# Altium footprint library CYPCBLIB.PcbLib: 184 footprints (part 6 of 12)
Each footprint in its own frame and in the unit in brackets; x right, y up, seen from the top. Pads: shape width x height; smd on the part's side, far side on the other; paste and mask are expansions set on the pad; w line width, h text height; cw(c..) or ccw(c..) is an arc to the next point about the centre after c.
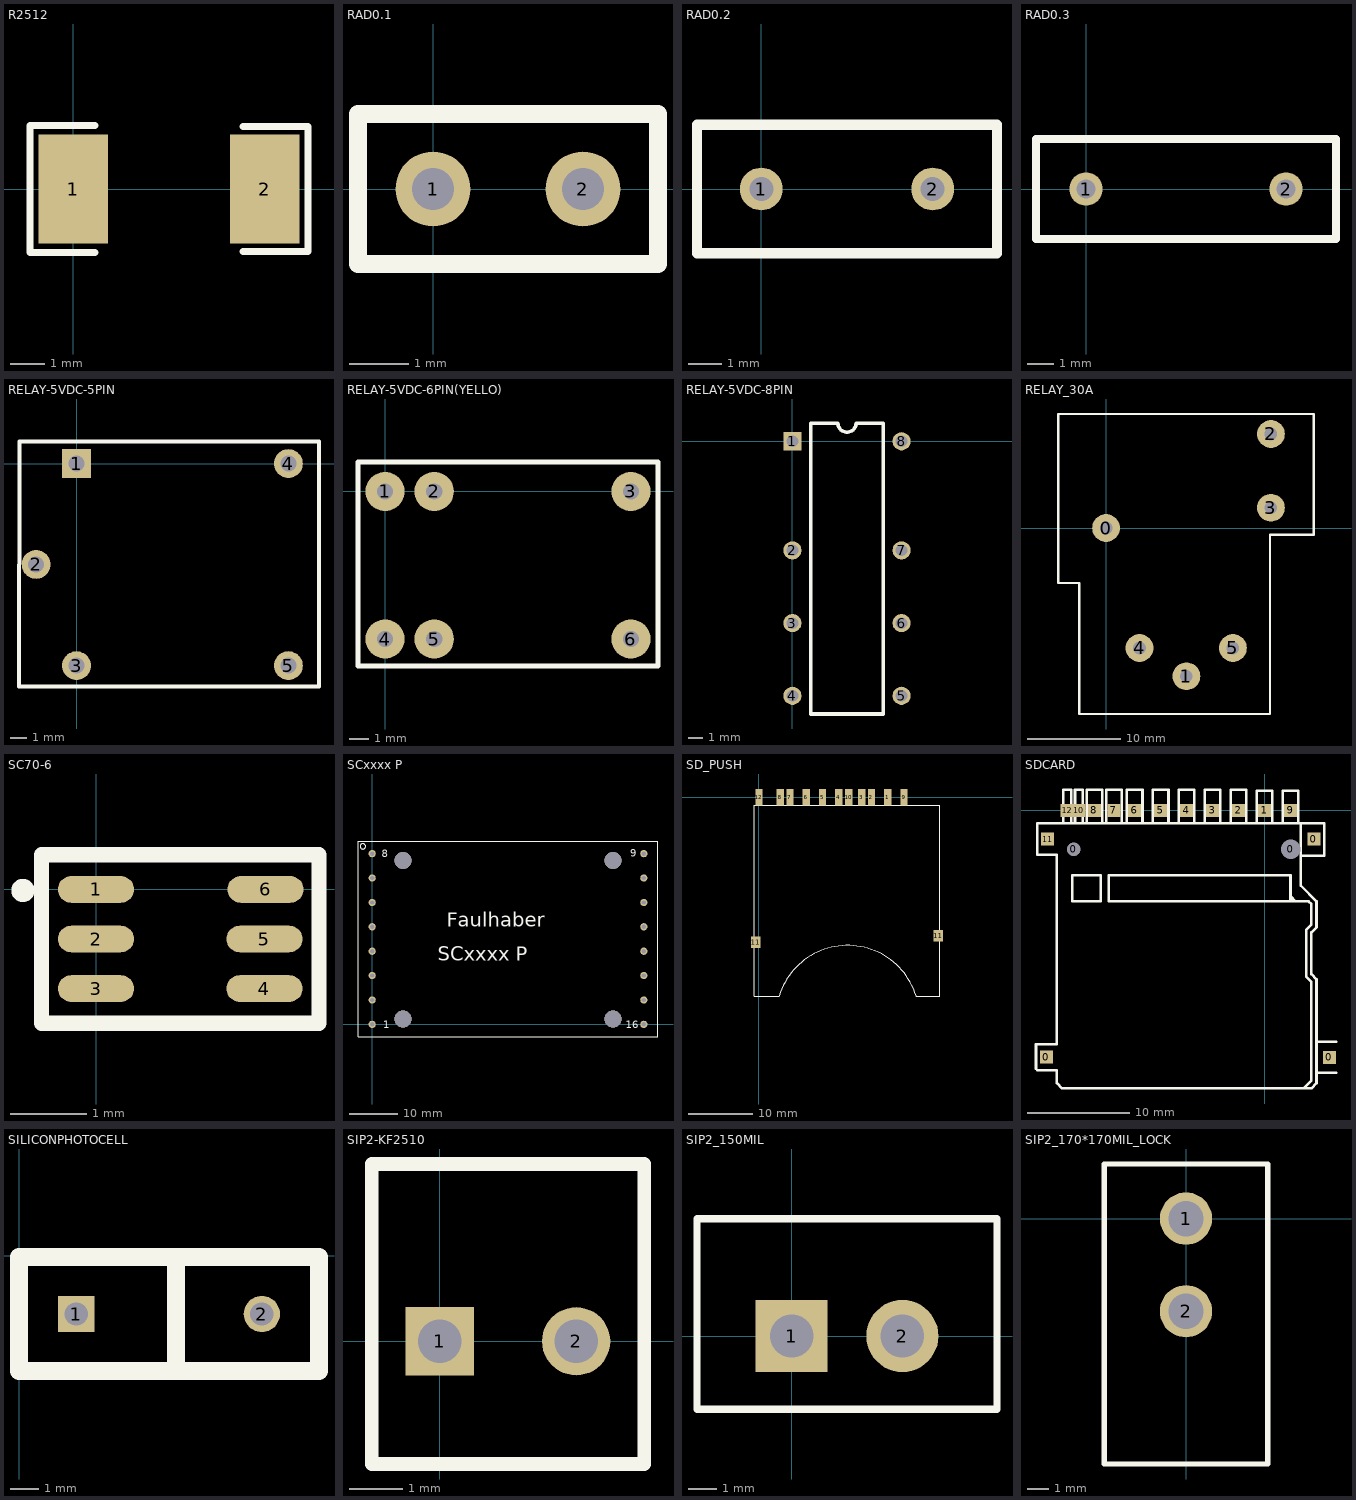
[diagram p5: the footprints below, top view; thin cyan lines are the x and y axes]

## R2512 [mil]
pads (2):
  rect 80x125 smd: 1(0,0) 2(220,0)
TopOverlay:
  lines w8: 25,-72.83 -50,-72.83 -50,72.83 25,72.83 ; 195,-71.85 270,-71.85 270,71.85 195,71.85

## RAD0.1 [mil]
pads (2):
  round 50 hole 28: 1(0,0) 2(100,0)
TopOverlay:
  lines w12: -50,-50 -50,50 150,50 150,-50 -50,-50

## RAD0.2 [mil]
pads (2):
  round 50 hole 28: 1(0,0) 2(200,0)
TopOverlay:
  lines w12: -75,-75 275,-75 275,75 -75,75 -75,-75

## RAD0.3 [mil]
pads (2):
  round 50 hole 28: 1(0,0) 2(300,0)
TopOverlay:
  lines w12: -75,-75 -75,75 375,75 375,-75 -75,-75

## RELAY-5VDC-5PIN [mm]
pads (5):
  rect 1.8x1.8 hole 1: 1(0,0)
  round 1.8 hole 1: 2(-2.515,-6.274) 3(0,-12.573) 4(13.183,0) 5(13.183,-12.573)
TopOverlay:
  lines w0.254: -3.581,-13.868 15.088,-13.868 15.088,1.372 -3.556,1.372 -3.581,-13.868

## RELAY-5VDC-6PIN(YELLO) [mil]
pads (6):
  round 80 hole 33: 1(0,0) 2(100,0) 3(500,0) 4(0,-300) 5(100,-300) 6(500,-300)
TopOverlay:
  lines w10: -55,-355 555,-355 555,60 -55,60 -55,-355

## RELAY-5VDC-8PIN [mil]
pads (8):
  rect 50x50 hole 32: 1(0,0)
  round 50 hole 32: 2(0,-300) 3(0,-500) 4(0,-700) 5(300,-700) 6(300,-500) 7(300,-300) 8(300,0)
TopOverlay:
  lines w10: 50,-750 250,-750 250,50 175,50 cw(c150,50) 125,50 50,50 50,-750

## RELAY_30A [mm]
pads (6):
  round 3 hole 1.35: 0(0,0) 1(8.63,-15.94) 2(17.72,10.11) 3(17.72,2.18) 4(3.59,-12.9) 5(13.63,-12.9)
TopOverlay:
  lines w0.254: 8.564,-20 8.566,-19.998 ; -5.15,-5.91 -5.15,12.26 22.33,12.26 22.33,-0.74 17.63,-0.74 17.63,-20 -2.87,-20 -2.87,-5.91 -5.15,-5.91

## SC70-6 [mm]
pads (6):
  oval 1x0.35 smd: 1(0,0) 2(0,-0.65) 3(0,-1.3) 4(2.21,-1.3) 5(2.21,-0.65) 6(2.224,0)
TopOverlay:
  lines w0.203: -0.914,0.01 ccw(c-0.959,-0.012) -0.91,0 ; -0.715,-1.755 -0.715,0.455 2.925,0.455 2.925,-1.755 -0.715,-1.755

## SCxxxx P [mm]
pads (16):
  round 1.5 hole 0.9: 1(0,0) 2(0,5.08) 3(0,10.16) 4(0,15.24) 5(0,20.32) 6(0,25.4) 7(0,30.48) 8(0,35.56) 9(56.6,35.56) 10(56.6,30.48) 11(56.6,25.4) 12(56.6,20.32) 13(56.6,15.24) 14(56.6,10.16) 15(56.6,5.08) 16(56.6,0)
via 6.4,34.14 diameter 3.5 hole 3.5
via 6.4,1.14 diameter 3.5 hole 3.5
via 50.2,1.14 diameter 3.5 hole 3.5
via 50.2,34.14 diameter 3.5 hole 3.5
TopOverlay:
  circle w0.254: c-1.934,37.084 r0.568
  lines w0.254: -2.95,-2.54 -2.95,38.1 59.55,38.1 59.55,-2.54 -2.95,-2.54
  text "Faulhaber" at 15.494,20.32 h3
  text "8" at 2.032,34.798 h1.5
  text "1" at 2.286,-0.762 h1.5
  text "16" at 52.832,-0.762 h1.5
  text "9" at 53.79,34.922 h1.5
  text "SCxxxx P" at 13.716,13.208 h3
BottomOverlay:
  circle w0.254: c-1.934,37.084 r0.568

## SD_PUSH [mil]
pads (13):
  rect 45x100 smd: 1(790,0) 2(690,0) 3(630,0) 4(490,0) 5(390,0) 6(290,0) 7(190,0) 8(130,0) 9(890,0) 10(550,0) 12(0,0)
  rect 60x70 smd: 11(-20,-890) 11(1100,-850)
TopOverlay:
  lines w5: 123.91,-1220 -30,-1220 -30,-50 1110,-50 1110,-1220 964.07,-1220 964.07,-1218.73
  lines w6.69: 123.91,-1218.08 cw(c543.89,-1350.24) 964.07,-1218.73

## SDCARD [mil]
pads (17):
  rect 50x50 smd: 0(-840,-950) 0(190,-110) 0(249.62,-950.84) 1(0,0) 2(-100,0) 3(-200,0) 4(-300,0) 5(-400,0) 6(-500,0) 7(-580,0) 8(-655,0) 9(100,0) 10(-715,0) 11(-835,-110) 12(-760,0)
  round 50 hole 52: 0(-735,-150)
  round 50 hole 75: 0(100,-150)
TopOverlay:
  lines w10: -775,-50 -775,80 -745,80 -745,-50 -800,-50 -875,-50 -875,-170 -800,-170 -800,-900 -880,-900 -880,-995 -875,-1000 -800,-1000 -800,-1050 -780,-1070 -770,-1070 180,-1070 200,-1050 200,-650 180,-630 180,-470 200,-450 200,-440 200,-370 200,-350 140,-290 140,-60 140,-50 ; -750,-50 140,-50 ; -730,-50 -730,80 -700,80 -700,-50 ; -685,-45 -685,80 -625,80 -625,-45 ; -650,-350 -630,-350 -630,-250 -740,-250 -740,-350 -640,-350 ; -610,-45 -610,80 -550,80 -550,-45 ; -530,-45 -530,80 -470,80 -470,-45 ; -430,-45 -430,80 -370,80 -370,-45 ; -330,-45 -330,80 -270,80 -270,-45 ; -230,-45 -230,80 -170,80 -170,-45 ; -130,-45 -130,80 -70,80 -70,-45 ; -30,-50 -30,75 30,75 30,-50 ; 70,-50 70,75 130,75 130,-50 ; 100,-330 120,-350 ; 140,-175 230,-175 230,-50 140,-50 ; 150,-1070 180,-1040 180,-670 180,-660 160,-640 160,-460 180,-440 180,-360 170,-350 100,-350 ; 200,-1010 275,-1010 ; 200,-890 275,-890 ; 100,-350 100,-340 100,-250 -600,-250 -600,-350 100,-350

## SILICONPHOTOCELL [mil]
pads (2):
  rect 50x50 hole 32: 1(78.63,-80)
  round 50 hole 32: 2(334.54,-80)
TopOverlay:
  lines w25: 216.43,-158.74 216.43,-1.26 ; -0.11,-158.74 413.28,-158.74 413.28,-1.26 -0.11,-1.26 -0.11,-158.74

## SIP2-KF2510 [mil]
pads (2):
  rect 50x50 hole 32: 1(0,0)
  round 50 hole 32: 2(100,0)
TopOverlay:
  lines w10: -50,-90 -50,130 150,130 150,-90 50,-90 -50,-90

## SIP2_150MIL [mm]
pads (2):
  rect 2.5x2.5 hole 1.5: 1(0,0)
  round 2.5 hole 1.5: 2(3.835,0)
TopOverlay:
  lines w0.254: -3.277,-2.54 -3.277,4.064 7.112,4.064 7.112,-2.54 -3.277,-2.54

## SIP2_170*170MIL_LOCK [mil]
pads (2):
  round 96 hole 65: 1(0,0) 2(0,-170)
TopOverlay:
  lines w10: -150,-450 150,-450 150,100 -150,100 -150,-450